# Altium footprint library TO220-5-STAGGERED.PcbLib: 1 footprints
Each footprint in its own frame and in the unit in brackets; x right, y up, seen from the top. Pads: shape width x height; smd on the part's side, far side on the other; paste and mask are expansions set on the pad; w line width, h text height; cw(c..) or ccw(c..) is an arc to the next point about the centre after c.
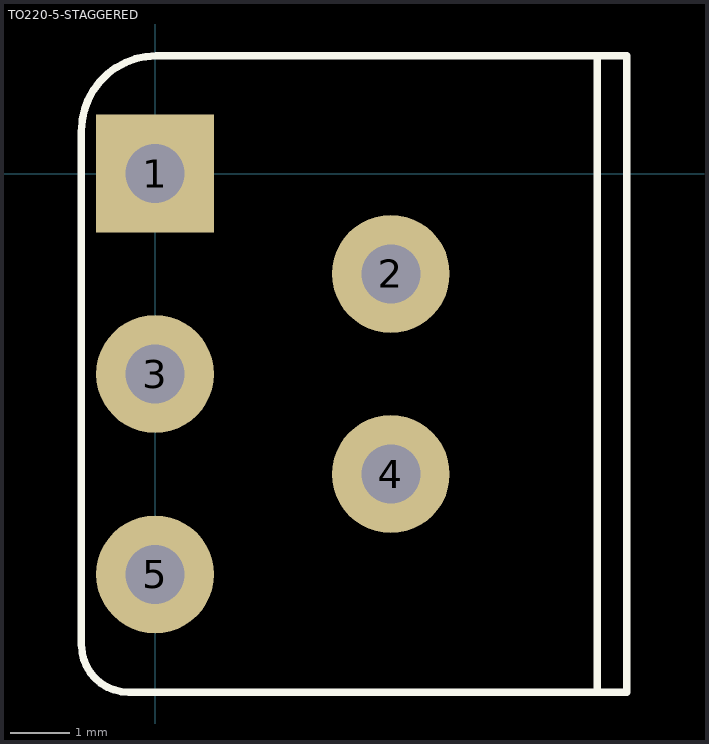
[diagram p0: the footprint, top view; thin cyan lines are the x and y axes]

## TO220-5-STAGGERED [mm]
pads (5):
  rect 2x2 hole 1: 1(0,0)
  round 2 hole 1: 2(4,-1.7) 3(0,-3.4) 4(4,-5.1) 5(0,-6.8)
Top Overlay:
  lines w0.127: 7.5,-8.8 7.5,2 ; -1.25,-8 ccw(c-0.45,-8) -0.45,-8.8 8,-8.8 8,2 0.02,2 ccw(c0.02,0.73) -1.25,0.73 -1.25,-8